# Altium footprint library ES_Pcb.PcbLib: 383 footprints (part 8 of 24)
Each footprint in its own frame and in the unit in brackets; x right, y up, seen from the top. Pads: shape width x height; smd on the part's side, far side on the other; paste and mask are expansions set on the pad; w line width, h text height; cw(c..) or ccw(c..) is an arc to the next point about the centre after c.
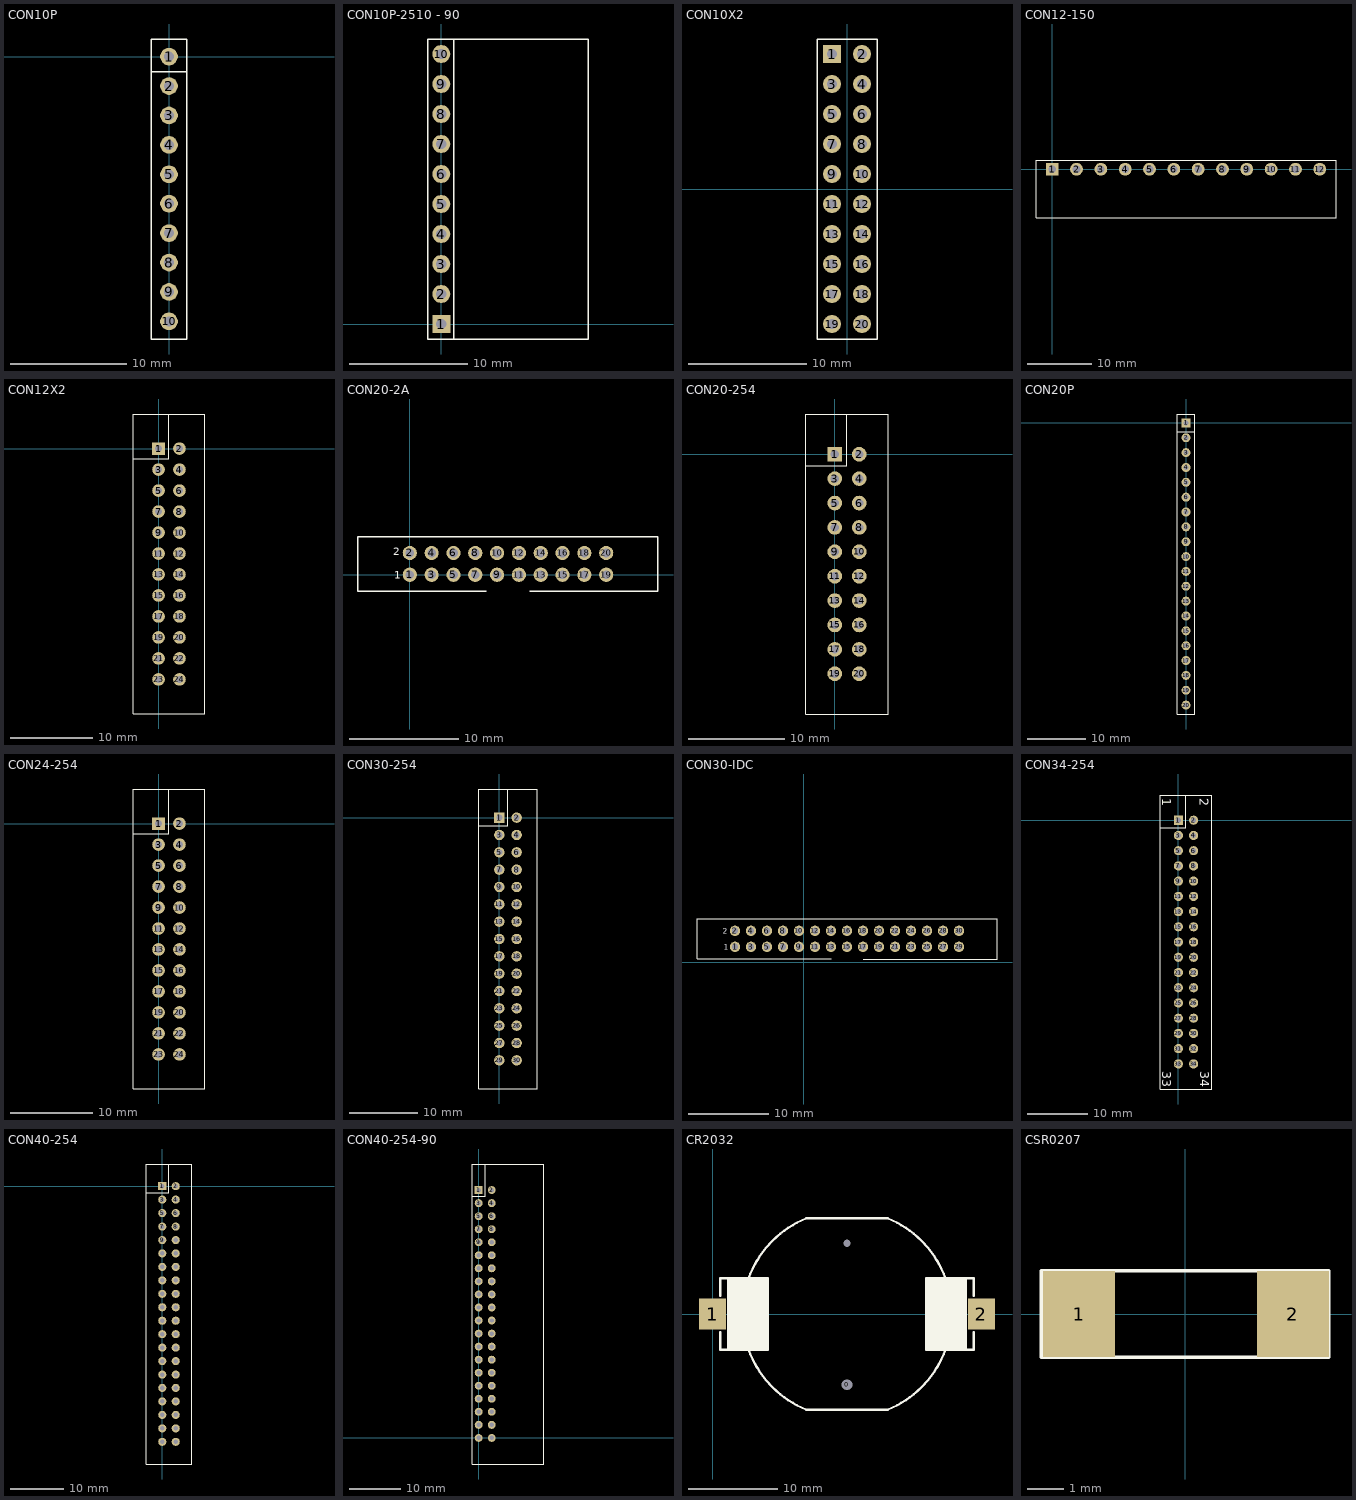
[diagram p7: the footprints below, top view; thin cyan lines are the x and y axes]

## CON10P [mil]
pads (10):
  round 60 hole 34: 1(0,0) 2(0,-100) 3(0,-200) 4(0,-300) 5(0,-400) 6(0,-500) 7(0,-600) 8(0,-700) 9(0,-800) 10(0,-900)
Top Overlay:
  lines w5: -60,-51 60,-51 ; -60,-960 -60,60 60,60 60,-960 -60,-960

## CON10P-2510 - 90 [mil]
pads (10):
  rect 60x60 hole 34: 1(0,0)
  round 60 hole 34: 2(0,100) 3(0,200) 4(0,300) 5(0,400) 6(0,500) 7(0,600) 8(0,700) 9(0,800) 10(0,900)
Top Overlay:
  lines w5: 40.89,-50 40.89,350 40.89,950 ; 40.89,-50 -45,-50 -45,350 -45,693.43 -45,950 40.89,950 ; 40.89,-50 203.54,-50 489.72,-50 489.72,400 489.72,950 188.15,950 40.89,950

## CON10X2 [mil]
pads (20):
  rect 60x60 hole 34: 1(-50,450)
  round 60 hole 34: 2(50,450) 3(-50,350) 4(50,350) 5(-50,250) 6(50,250) 7(-50,150) 8(50,150) 9(-50,50) 10(50,50) 11(-50,-50) 12(50,-50) 13(-50,-150) 14(50,-150) 15(-50,-250) 16(50,-250) 17(-50,-350) 18(50,-350) 19(-50,-450) 20(50,-450)
Top Overlay:
  lines w5: -100,-500 100,-500 100,500 -100,500 -100,-500

## CON12-150 [mm]
pads (12):
  rect 2x2 hole 1.2: 1(0,0)
  round 2 hole 1.2: 2(3.81,0) 3(7.62,0) 4(11.43,0) 5(15.24,0) 6(19.05,0) 7(22.86,0) 8(26.67,0) 9(30.48,0) 10(34.29,0) 11(38.1,0) 12(41.91,0)
Top Overlay:
  lines w0.127: -2.545,-7.6 44.455,-7.6 44.455,1.4 -2.545,1.4 -2.545,-7.6

## CON12X2 [mil]
pads (24):
  rect 60x60 hole 34: 1(0,0)
  round 60 hole 34: 2(100,0) 3(0,-100) 4(100,-100) 5(0,-200) 6(100,-200) 7(0,-300) 8(100,-300) 9(0,-400) 10(100,-400) 11(0,-500) 12(100,-500) 13(0,-600) 14(100,-600) 15(0,-700) 16(100,-700) 17(0,-800) 18(100,-800) 19(0,-900) 20(100,-900) 21(0,-1000) 22(100,-1000) 23(0,-1100) 24(100,-1100)
Top Overlay:
  lines w5: -120,-48 49,-48 49,163 ; -120,-1265 -120,165 220,165 220,-1265 -120,-1265

## CON20-2A [mm]
pads (20):
  round 1.3 hole 0.8: 1(0,0) 2(0,2) 3(2,0) 4(2,2) 5(4,0) 6(4,2) 7(6,0) 8(6,2) 9(8,0) 10(8,2) 11(10,0) 12(10,2) 13(12,0) 14(12,2) 15(14,0) 16(14,2) 17(16,0) 18(16,2) 19(18,0) 20(18,2)
Top Overlay:
  lines w0.127: 7,-1.5 -4.75,-1.5 -4.75,3.5 22.75,3.5 22.75,-1.525 11,-1.525
  text "2" at -1.539,1.784 h0.7
  text "1" at -1.412,-0.375 h0.7

## CON20-254 [mil]
pads (20):
  rect 60x60 hole 34: 1(0,0)
  round 60 hole 34: 2(100,0) 3(0,-100) 4(100,-100) 5(0,-200) 6(100,-200) 7(0,-300) 8(100,-300) 9(0,-400) 10(100,-400) 11(0,-500) 12(100,-500) 13(0,-600) 14(100,-600) 15(0,-700) 16(100,-700) 17(0,-800) 18(100,-800) 19(0,-900) 20(100,-900)
Top Overlay:
  lines w5: -120,-48 49,-48 49,163 ; -120,-1065 -120,165 220,165 220,-1065 -120,-1065

## CON20P [mil]
pads (20):
  rect 60x60 hole 34: 1(0,0)
  round 60 hole 34: 2(0,-100) 3(0,-200) 4(0,-300) 5(0,-400) 6(0,-500) 7(0,-600) 8(0,-700) 9(0,-800) 10(0,-900) 11(0,-1000) 12(0,-1100) 13(0,-1200) 14(0,-1300) 15(0,-1400) 16(0,-1500) 17(0,-1600) 18(0,-1700) 19(0,-1800) 20(0,-1900)
Top Overlay:
  lines w5: -60,-60 60,-60 ; -60,-1960 60,-1960 60,60 -60,60 -60,-1960

## CON24-254 [mil]
pads (24):
  rect 60x60 hole 34: 1(0,0)
  round 60 hole 34: 2(100,0) 3(0,-100) 4(100,-100) 5(0,-200) 6(100,-200) 7(0,-300) 8(100,-300) 9(0,-400) 10(100,-400) 11(0,-500) 12(100,-500) 13(0,-600) 14(100,-600) 15(0,-700) 16(100,-700) 17(0,-800) 18(100,-800) 19(0,-900) 20(100,-900) 21(0,-1000) 22(100,-1000) 23(0,-1100) 24(100,-1100)
Top Overlay:
  lines w5: -120,-48 49,-48 49,163 ; -120,-1265 220,-1265 220,165 -120,165 -120,-1265

## CON30-254 [mil]
pads (30):
  rect 60x60 hole 34: 1(0,0)
  round 60 hole 34: 2(100,0) 3(0,-100) 4(100,-100) 5(0,-200) 6(100,-200) 7(0,-300) 8(100,-300) 9(0,-400) 10(100,-400) 11(0,-500) 12(100,-500) 13(0,-600) 14(100,-600) 15(0,-700) 16(100,-700) 17(0,-800) 18(100,-800) 19(0,-900) 20(100,-900) 21(0,-1000) 22(100,-1000) 23(0,-1100) 24(100,-1100) 25(0,-1200) 26(100,-1200) 27(0,-1300) 28(100,-1300) 29(0,-1400) 30(100,-1400)
Top Overlay:
  lines w5: -120,-48 49,-48 49,163 ; -120,-1565 220,-1565 220,165 -120,165 -120,-1565

## CON30-IDC [mm]
pads (30):
  round 1.3 hole 0.8: 1(-8.621,1.899) 2(-8.621,3.899) 3(-6.621,1.899) 4(-6.621,3.899) 5(-4.621,1.899) 6(-4.621,3.899) 7(-2.621,1.899) 8(-2.621,3.899) 9(-0.621,1.899) 10(-0.621,3.899) 11(1.379,1.899) 12(1.379,3.899) 13(3.379,1.899) 14(3.379,3.899) 15(5.379,1.899) 16(5.379,3.899) 17(7.379,1.899) 18(7.379,3.899) 19(9.379,1.899) 20(9.379,3.899) 21(11.379,1.899) 22(11.379,3.899) 23(13.379,1.899) 24(13.379,3.899) 25(15.379,1.899) 26(15.379,3.899) 27(17.379,1.899) 28(17.379,3.899) 29(19.379,1.899) 30(19.379,3.899)
Top Overlay:
  lines w0.127: 3.379,0.399 -13.371,0.399 -13.371,5.399 24.129,5.399 24.129,0.374 7.379,0.374
  text "2" at -10.16,3.556 h0.7
  text "1" at -10.033,1.524 h0.7

## CON34-254 [mil]
pads (34):
  rect 60x60 hole 34: 1(0,0)
  round 60 hole 34: 2(100,0) 3(0,-100) 4(100,-100) 5(0,-200) 6(100,-200) 7(0,-300) 8(100,-300) 9(0,-400) 10(100,-400) 11(0,-500) 12(100,-500) 13(0,-600) 14(100,-600) 15(0,-700) 16(100,-700) 17(0,-800) 18(100,-800) 19(0,-900) 20(100,-900) 21(0,-1000) 22(100,-1000) 23(0,-1100) 24(100,-1100) 25(0,-1200) 26(100,-1200) 27(0,-1300) 28(100,-1300) 29(0,-1400) 30(100,-1400) 31(0,-1500) 32(100,-1500) 33(0,-1600) 34(100,-1600)
Top Overlay:
  lines w5: -120,-48 49,-48 49,163 ; -120,-1765 220,-1765 220,-1565 220,165 -120,165 -120,-1565 -120,-1765
  text "2" at 140,145 h60
  text "34" at 145,-1650 h60
  text "33" at -105,-1650 h60
  text "1" at -105,145 h60

## CON40-254 [mil]
pads (40):
  rect 60x60 hole 34: 1(0,0)
  round 60 hole 34: 2(100,0) 3(0,-100) 4(100,-100) 5(0,-200) 6(100,-200) 7(0,-300) 8(100,-300) 9(0,-400) 10(100,-400) 11(0,-500) 12(100,-500) 13(0,-600) 14(100,-600) 15(0,-700) 16(100,-700) 17(0,-800) 18(100,-800) 19(0,-900) 20(100,-900) 21(0,-1000) 22(100,-1000) 23(0,-1100) 24(100,-1100) 25(0,-1200) 26(100,-1200) 27(0,-1300) 28(100,-1300) 29(0,-1400) 30(100,-1400) 31(0,-1500) 32(100,-1500) 33(0,-1600) 34(100,-1600) 35(0,-1700) 36(100,-1700) 37(0,-1800) 38(100,-1800) 39(0,-1900) 40(100,-1900)
Top Overlay:
  lines w5: -120,-48 49,-48 49,163 ; -120,-2065 220,-2065 220,165 -120,165 -120,-2065

## CON40-254-90 [mil]
pads (40):
  rect 60x60 hole 34: 1(0,1900)
  round 60 hole 34: 2(100,1900) 3(0,1800) 4(100,1800) 5(0,1700) 6(100,1700) 7(0,1600) 8(100,1600) 9(0,1500) 10(100,1500) 11(0,1400) 12(100,1400) 13(0,1300) 14(100,1300) 15(0,1200) 16(100,1200) 17(0,1100) 18(100,1100) 19(0,1000) 20(100,1000) 21(0,900) 22(100,900) 23(0,800) 24(100,800) 25(0,700) 26(100,700) 27(0,600) 28(100,600) 29(0,500) 30(100,500) 31(0,400) 32(100,400) 33(0,300) 34(100,300) 35(0,200) 36(100,200) 37(0,100) 38(100,100) 39(0,0) 40(100,0)
Top Overlay:
  lines w5: -50,1852 49,1852 49,2099.41 ; -50,-200 500,-200 500,2100 -50,2100 -50,-200

## CR2032 [mm]
pads (4):
  round 1 hole 1.2: 0(15,-7.9)
  round 0.5 hole 0.8: 0(15,7.9)
  rect 3x3.5 smd: 1(0,0) 2(30,0)
Top Overlay:
  rectangle: 23.865,-4.039 28.411,4
  rectangle: 1.589,-4.064 6.135,4
  lines w0.254: 0.85,-2 0.85,-4 4,-4 ; 0.85,2 0.85,4 4,4 ; 29.15,-2 29.15,-4 26,-4 ; 29.15,2 29.15,4 26,4 ; 4,-4 ccw(c14.891,0.05) 10.43,-10.679 19.57,-10.68 ccw(c15.109,0.05) 26,-4 ; 4,-4 6.135,-4 6.135,4 4,4 ; 4,4 cw(c14.891,-0.05) 10.43,10.679 19.57,10.68 cw(c15.109,-0.05) 26,4 ; 26,-4 23.865,-4 23.865,4 26,4

## CSR0207 [mm]
pads (2):
  rect 2x2.4 smd: 1(-2.946,0) 2(2.997,0)
Top Overlay:
  lines w0.1: -4,-1.2 4,-1.2 4,1.2 -4,1.2 -4,-1.2